# Altium schematic symbol library VCNL4040.SchLib: 1 symbol
Pins are listed as number, name and electrical type; pins without a type are passive.

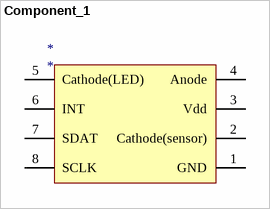
[diagram p0: symbol Component_1]

## Component_1
designator *
footprint SOP8 - duplicate
footprint SOP8
footprint SOP8
footprint SOP8
pins: 1 GND, 2 Cathode(sensor), 3 Vdd, 4 Anode, 5 Cathode(LED), 6 INT, 7 SDAT, 8 SCLK